# Altium schematic symbol library MBRD1045T4G.SchLib: 1 symbol
Pins are listed as number, name and electrical type; pins without a type are passive.

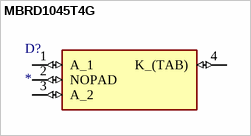
[diagram p0: symbol MBRD1045T4G]

## MBRD1045T4G
designator D?
Diode Schottky 45 V 10A Surface Mount DPAK; MF: ON Semiconductor; MP: MBRD1045T4G; SnapEDA_Link: https://www.snapeda.com/parts/MBRD1045T4G/Onsemi/view-part/?ref=snap; Package: DPAK-3 ON Semiconductor; Value: *; Check_prices: https://www.snapeda.com/parts/MBRD1045T4G/Onsemi/view-part/?ref=eda
footprint TO229P990X238-4N
pins: 1 A_1 (io), 2 NOPAD (io), 3 A_2 (io), 4 K_(TAB) (io)